# Altium footprint library Erico_Ignitor.PcbLib: 55 footprints (part 1 of 4)
Each footprint in its own frame and in the unit in brackets; x right, y up, seen from the top. Pads: shape width x height; smd on the part's side, far side on the other; paste and mask are expansions set on the pad; w line width, h text height; cw(c..) or ccw(c..) is an arc to the next point about the centre after c.
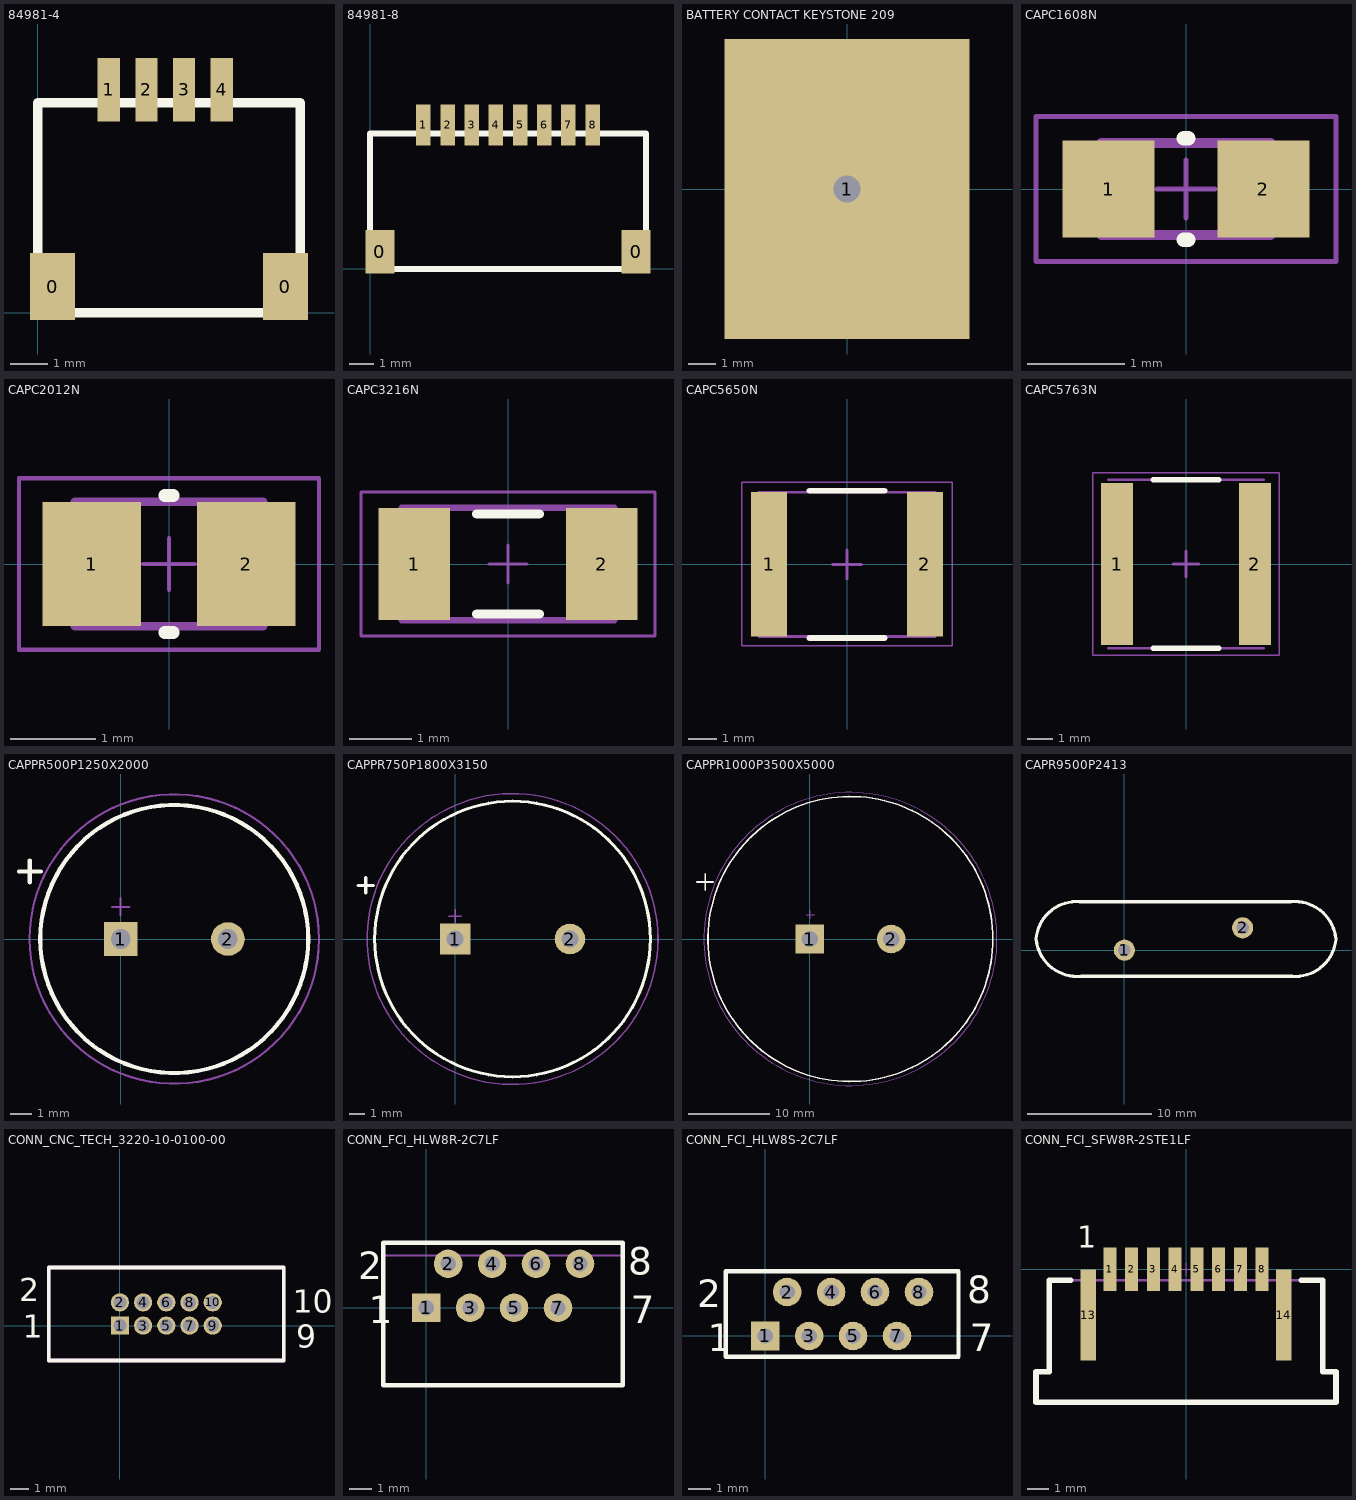
[diagram p0: the footprints below, top view; thin cyan lines are the x and y axes]

## 84981-4 [mm]
pads (6):
  rect 1.2x1.8 smd: 0(0.4,0.7) 0(6.6,0.7)
  rect 0.6x1.7 smd: 1(1.9,5.95) 2(2.9,5.95) 3(3.9,5.95) 4(4.9,5.95)
Top Overlay:
  lines w0.254: 0,0 7,0 7,5.6 0,5.6 0,0
3D body "c-84981-4-j-3d.stp": height 3, standoff -0.05, extent -0.1,0.1 6.9,6.4

## 84981-8 [mm] "FFC CONN SMT, H, NON-ZIF"
height 3
pads (10):
  rect 1.2x1.8 smd: 0(0.4,0.7) 0(11,0.7)
  rect 0.6x1.7 smd: 1(2.2,5.95) 2(3.2,5.95) 3(4.2,5.95) 4(5.2,5.95) 5(6.2,5.95) 6(7.2,5.95) 7(8.2,5.95) 8(9.2,5.95)
Top Overlay:
  lines w0.254: 0,0 11.4,0 11.4,5.6 0,5.6 0,0
3D body "c-84981-8-j-3d.STEP": height 3, standoff -0.05, extent 0.2,-0.05 11.2,6.25

## BATTERY CONTACT KEYSTONE 209 [mm] "BATTERY CONTACT 209"
height 5.9
pads (1):
  rect 9x11 hole 1: 1(0,0)
Mechanical 15:
  lines w0.05: -0.3,-0.015 0.3,-0.015 ; 0,-0.315 0,0.285
3D body "keystone-aa-209.STEP": height 3.35, standoff -3.65, extent -4.001,-7.76 4,4.126

## CAPC1608N [mm] "Chip Capacitor Body 1.6 x 0.8 mm (LxW typ)"
height 0.6
pads (2):
  rect 0.95x1 smd: 1(-0.8,0) 2(0.8,0)
Top Overlay:
  lines w0.15: -0.025,-0.525 0.025,-0.525 ; -0.025,0.525 0.025,0.525
Mechanical 13:
  lines w0.1: -0.875,-0.475 -0.875,0.475 0.875,0.475 0.875,-0.475 -0.875,-0.475
Mechanical 15:
  lines w0.05: -0.3,0 0.3,0 ; 0,-0.3 0,0.3 ; -1.55,-0.75 -1.55,0.75 1.55,0.75 1.55,-0.75 -1.55,-0.75
3D body "User Library-V0603HD.STEP": height 0.81, standoff 0.01, extent -0.8,-0.457 0.8,0.443

## CAPC2012N [mm] "Chip Capacitor, Body 2.0x1.3mm, IPC Med Density"
height 1.1
pads (2):
  rect 1.15x1.45 smd: 1(-0.9,0) 2(0.9,0)
Top Overlay:
  lines w0.15: -0.05,-0.8 0.05,-0.8 ; -0.05,0.8 0.05,0.8
Mechanical 13:
  lines w0.102: -1.1,-0.725 -1.1,0.725 1.1,0.725 1.1,-0.725 -1.1,-0.725
Mechanical 15:
  lines w0.05: -0.3,0 0.3,0 ; 0,-0.3 0,0.3 ; -1.75,-1 -1.75,1 1.75,1 1.75,-1 -1.75,-1
3D body "0805Capacitor.STEP": height 0.78, standoff 0, extent -1,-0.625 1,0.625

## CAPC3216N [mm] "Chip Capacitor, Body 3.2x1.6mm, IPC Medium Density"
height 0.71
pads (2):
  rect 1.15x1.8 smd: 1(-1.5,0) 2(1.5,0)
Top Overlay:
  lines w0.15: -0.5,-0.8 0.5,-0.8 ; -0.5,0.8 0.5,0.8
Mechanical 13:
  lines w0.1: -1.7,-0.9 -1.7,0.9 1.7,0.9 1.7,-0.9 -1.7,-0.9
Mechanical 15:
  lines w0.05: -0.3,0 0.3,0 ; 0,-0.3 0,0.3 ; -2.35,-1.15 -2.35,1.15 2.35,1.15 2.35,-1.15 -2.35,-1.15
3D body "SW3dPS-1206 SMD Resistor.STEP": height 1.02, standoff 0.02, extent -1.6,-0.8 1.6,0.8

## CAPC5650N [mm] "Chip Capacitor, 2-Leads, Body 5.60x5.00mm, IPC Medium Density"
height 2.5
pads (2):
  rect 1.25x5 smd: 1(-2.7,0) 2(2.7,0)
Top Overlay:
  lines w0.2: -1.3,-2.55 1.3,-2.55 ; -1.3,2.55 1.3,2.55
Mechanical 13:
  lines w0.1: -3.05,-2.5 -3.05,2.5 3.05,2.5 3.05,-2.5 -3.05,-2.5
Mechanical 15:
  lines w0.05: -3.65,-2.825 -3.65,2.85 3.65,2.85 3.65,-2.825 -3.65,-2.825
  lines w0.1: -0.5,0 0.5,0 ; 0,-0.5 0,0.5
3D body "SMD Ceramic Capacitors_2220 (5650).STEP": height 1, standoff 0, extent -2.918,-2.5 2.919,2.5

## CAPC5763N [mm] "Chip Capacitor, 2-Leads, Body 5.70x6.30mm, IPC Medium Density"
height 2.54
pads (2):
  rect 1.25x6.35 smd: 1(-2.7,0) 2(2.7,0)
Top Overlay:
  lines w0.2: -1.3,-3.3 1.3,-3.3 ; -1.3,3.3 1.3,3.3
Mechanical 13:
  lines w0.1: -3.05,-3.3 3.05,-3.3 ; -3.05,-2.7 -3.05,2.7 ; -3.05,3.3 3.05,3.3 ; 3.05,-2.7 3.05,2.7
Mechanical 15:
  lines w0.05: -3.65,-3.575 3.65,-3.575 3.65,3.575 -3.65,3.575 -3.65,-3.575
  lines w0.1: -0.5,0 0.5,0 ; 0,-0.5 0,0.5
3D body "CAPC5764X_100.STEP": height 1.02, standoff 0, extent -2.875,-3.21 2.875,3.21

## CAPPR500P1250X2000 [mil] "Capacitor, Polarized Radial, 12.5mm D x 22mm H, 5mm pin pitch"
height 787.4
pads (2):
  rect 62x62 / inner round 62 / far side rect 62x62 hole 36: 1(0,0)
  round 62 hole 36: 2(196.85,0)
Top Overlay:
  circle w7.87: c98.43,0 r246.06
  lines w7.87: -186.68,124.02 -146.68,124.02 ; -166.68,104.02 -166.68,144.02
Mechanical 13:
  circle w3.94: c98.43,0 r246.06
  lines w3.94: -15.75,59.06 15.75,59.06 ; 0,43.31 0,74.8
Mechanical 15:
  circle w3.94: c98.43,0 r265.75
3D body "CAPPR500-1250x2000.STEP": height 787.4, standoff -295.28, extent -147.64,-246.06 344.49,246.07

## CAPPR750P1800X3150 [mm] "Capacitor, Polarized Radial, 18mm D x 31.5mm H, 7.5mm pin pitch"
height 31.5
pads (2):
  rect 2x2 / inner round 2 / far side rect 2x2 hole 1.1: 1(0,0)
  round 2 hole 1.1: 2(7.5,0)
Top Overlay:
  circle w0.2: c3.75,0 r9
  lines w0.2: -6.342,3.5 -5.326,3.5 ; -5.834,2.992 -5.834,4.008
Mechanical 13:
  circle w0.1: c3.75,0 r9
  lines w0.1: -0.4,1.5 0.4,1.5 ; 0,1.1 0,1.9
Mechanical 15:
  circle w0.1: c3.75,0 r9.5
3D body "CAPAER_D180_L315_P075_W008X030.STEP": height 31.51, standoff -3, extent -5.25,-9 12.76,9

## CAPPR1000P3500X5000 [mm] "Capacitor, Polarized Radial, 35mm D x 50mm H, 10mm pin pitch"
height 50
pads (2):
  rect 3.5x3.5 / inner round 3.5 / far side rect 3.5x3.5 hole 2: 1(0,0)
  round 3.5 hole 2: 2(10,0)
Top Overlay:
  circle w0.2: c5,0 r17.5
  lines w0.2: -13.842,7 -11.842,7 ; -12.834,5.992 -12.834,7.992
Mechanical 13:
  circle w0.1: c5,0 r17.5
  circle w0.1: c5,0 r17.5
  lines w0.1: -0.404,3 0.596,3 ; 0.096,2.5 0.096,3.5
Mechanical 15:
  circle w0.1: c5,0 r18
3D body: height 0.25, standoff 0, extent 5,0 5,0
3D body: height 50, standoff 0, extent -12.5,-17.5 22.5,17.5
3D body: height 0, standoff 0, extent -0.896,-0.898 0.897,0.898
3D body: height 0, standoff 0, extent 9.104,-0.898 10.896,0.898

## CAPR9500P2413 [mm] "Capacitor, Radial, 24.13mm D, 9.5mm pin pitch"
height 28.905
pads (2):
  round 1.7 hole 1: 1(0,0) 2(9.5,1.8)
Top Overlay:
  lines w0.254: -7.1,0.9 ccw(c-3.8,1.2) -3.5,-2.1 13.5,-2.1 ccw(c13.75,1.15) 17,0.9 ccw(c13.7,0.6) 13.4,3.9 -3.6,3.9 ccw(c-3.85,0.65) -7.1,0.9
3D body: height 25, standoff 1, extent -6.997,-2.1 16.997,4
3D body: height 8, standoff -2, extent -0.317,-0.319 0.32,0.32
3D body: height 8, standoff -2, extent 9.183,1.481 9.82,2.12

## CONN_CNC_TECH_3220-10-0100-00 [mm] "CONN HEADER .050 2X5 POS"
height 5.4
pads (10):
  rect 1x1 hole 0.7: 1(0,0)
  round 1 hole 0.7: 2(0,1.27) 3(1.27,0) 4(1.27,1.27) 5(2.54,0) 6(2.54,1.27) 7(3.81,0) 8(3.81,1.27) 9(5.08,0) 10(5.08,1.27)
Top Overlay:
  lines w0.203: -3.89,-1.915 -3.89,3.185 8.97,3.185 8.97,-1.915 -3.89,-1.915
  text "2" at -5.525,1.325 h1.25
  text "9" at 9.65,-1.2 h1.25
  text "10" at 9.45,0.7 h1.25
  text "1" at -5.325,-0.675 h1.25
Mechanical 13:
  lines w0.203: -3.89,-1.915 -3.89,3.185 8.97,3.185 8.97,-1.915 -3.89,-1.915
3D body "3220-10-0100-1.STEP": height 5.4, standoff -2.1, extent -3.785,-1.945 8.865,3.185

## CONN_FCI_HLW8R-2C7LF [mm] "CONN FFC FPC TOP R/A 8POS 1MM PCB"
height 3.9
pads (8):
  rect 1.3x1.3 hole 0.7: 1(0,0)
  round 1.3 hole 0.7: 2(1,2) 3(2,0) 4(3,2) 5(4,0) 6(5,2) 7(6,0) 8(7,2)
Top Overlay:
  lines w0.2: -1.95,-3.525 8.95,-3.525 8.95,2.95 -1.95,2.95 -1.95,-3.525
  text "8" at 9.2,1.5 h1.25
  text "7" at 9.3,-0.7 h1.25
  text "2" at -3.1,1.3 h1.25
  text "1" at -2.6,-0.7 h1.25
Mechanical 13:
  lines w0.1: -1.95,-3.525 -1.95,2.375 8.95,2.375 8.95,-3.525 -1.95,-3.525
3D body "shlw08r-2c7_lf.stp": height 3.95, standoff -2.95, extent -1.8,-3.5 8.8,2.4

## CONN_FCI_HLW8S-2C7LF [mm] "CONN FFC FPC VERT 8POS 1MM PCB"
height 5.9
pads (8):
  rect 1.3x1.3 hole 0.7: 1(0,0)
  round 1.3 hole 0.7: 2(1,2) 3(2,0) 4(3,2) 5(4,0) 6(5,2) 7(6,0) 8(7,2)
Top Overlay:
  lines w0.2: -1.8,-0.95 -1.8,2.95 8.8,2.95 8.8,-0.95 -1.8,-0.95
  text "1" at -2.6,-0.7 h1.25
  text "2" at -3.1,1.3 h1.25
  text "7" at 9.3,-0.7 h1.25
  text "8" at 9.2,1.5 h1.25
Mechanical 13:
  lines w0.1: -1.8,-0.95 8.8,-0.95 8.8,2.95 -1.8,2.95 -1.8,-0.95
3D body "Amphenol_shlw08s-2c7_lf.stp": height 5.45, standoff -3.45, extent -1.8,-0.95 8.8,2.95

## CONN_FCI_SFW8R-2STE1LF [mm] "CONN 8 POS FPC 1.0mm RA"
height 2.7
pads (10):
  rect 0.6x2 smd: 1(-3.5,0) 2(-2.5,0) 3(-1.5,0) 4(-0.5,0) 5(0.5,0) 6(1.5,0) 7(2.5,0) 8(3.5,0)
  rect 0.7x4.2 smd: 13(-4.5,-2.1) 14(4.5,-2.1)
Top Overlay:
  lines w0.254: -5.3,-0.5 -6.3,-0.5 -6.3,-4.7 -6.9,-4.7 -6.9,-6.1 6.9,-6.1 6.9,-4.7 6.3,-4.7 6.3,-0.5 5.3,-0.5
  text "1" at -5,1 h1
Mechanical 13:
  lines w0.1: -6.9,-6.1 -6.9,-4.7 -6.3,-4.7 -6.3,-0.5 -5.3,-0.5 6.3,-0.5 6.3,-4.7 6.9,-4.7 6.9,-6.1 -6.9,-6.1
Mechanical 15:
  lines w0.05: -0.3,0 0.3,0 ; 0,-0.3 0,0.3
3D body "ssfw08r_2_4st_lf.stp": height 2.7, standoff 0, extent -6.9,-6 6.9,0.5